# Altium schematic symbol library Microchip PIC12.SchLib: 457 symbols (part 9 of 15)
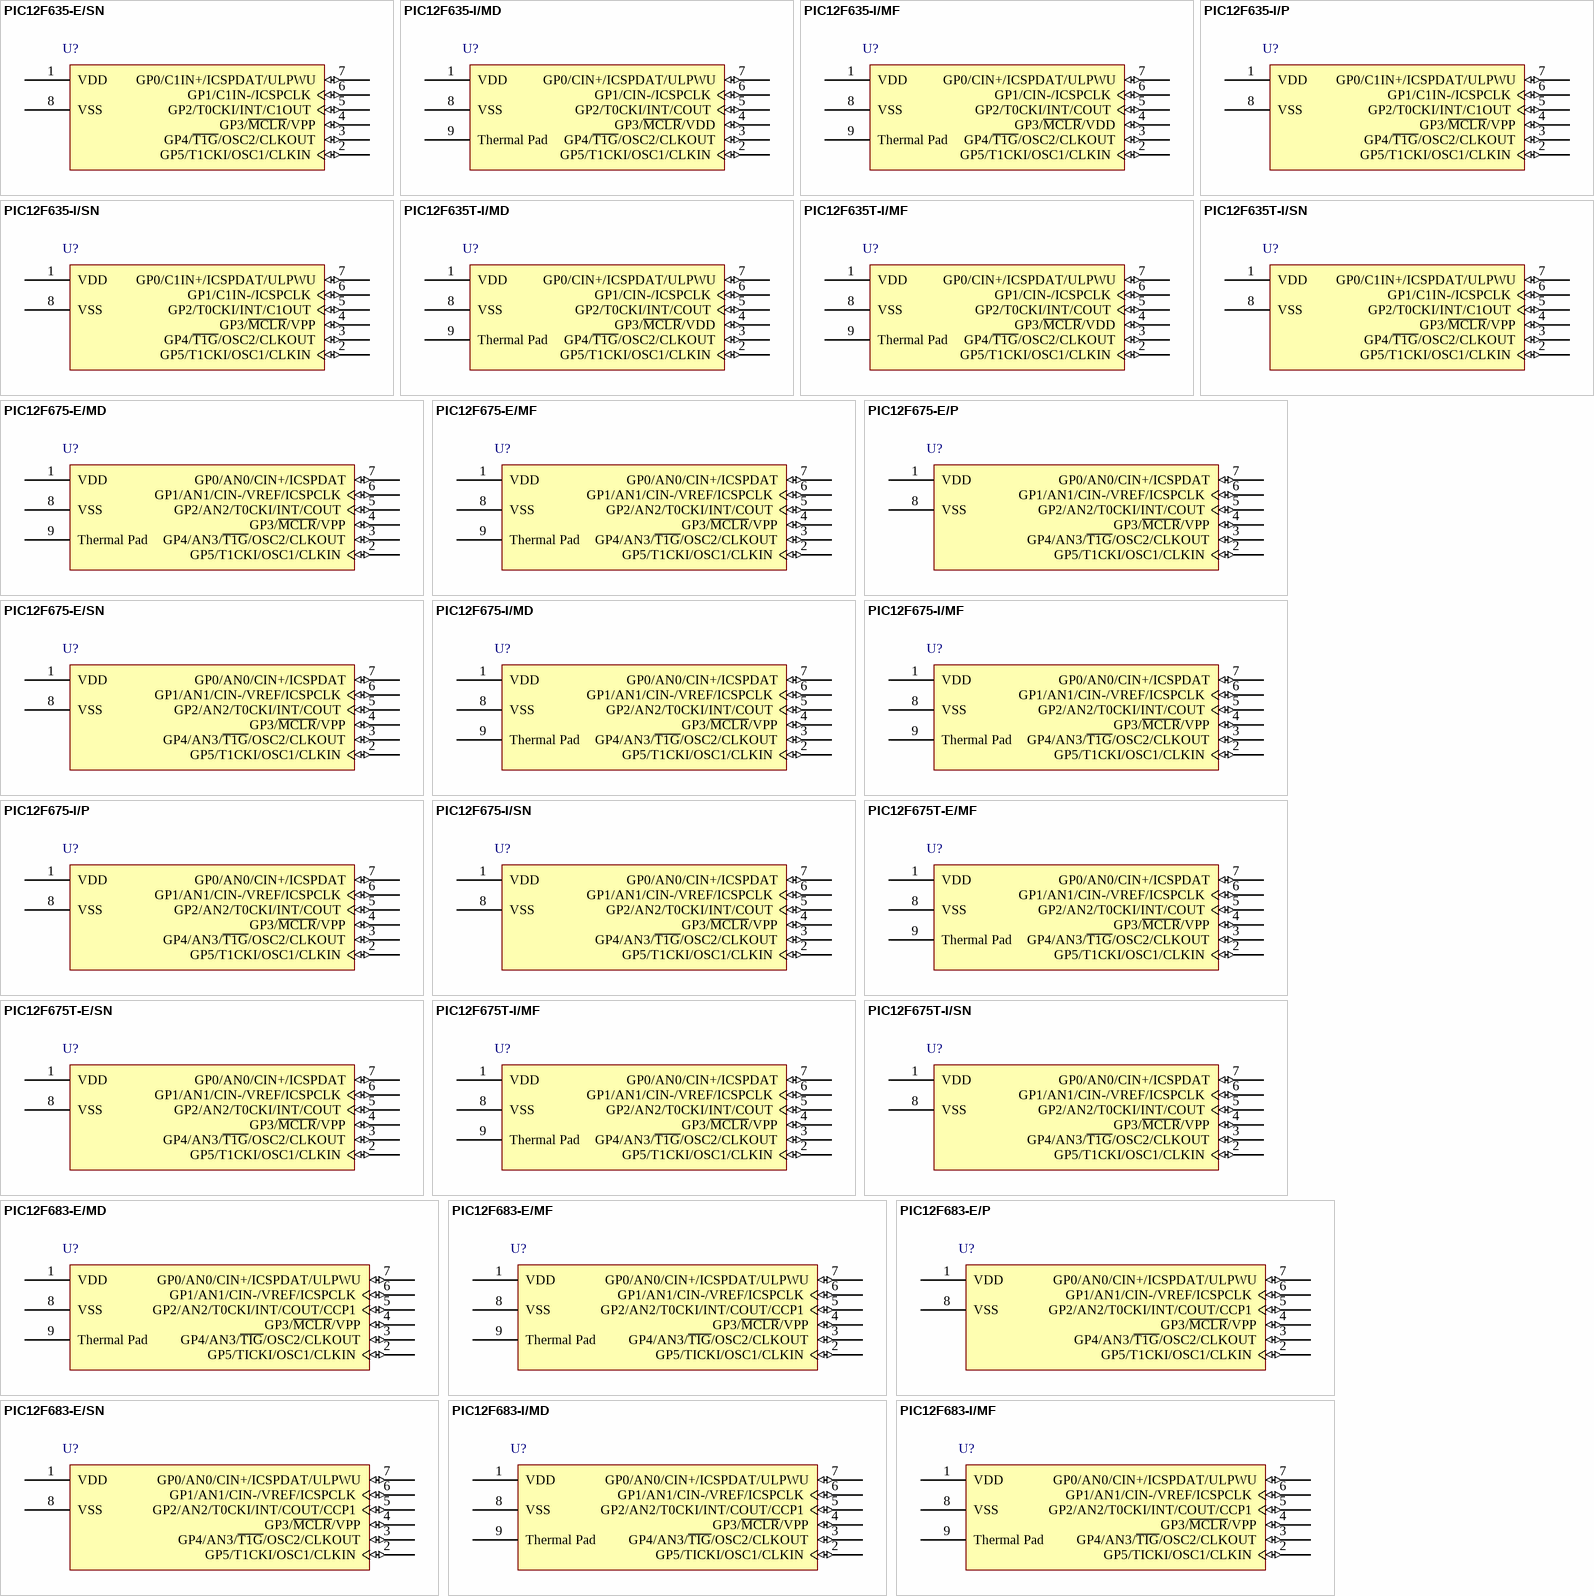
[diagram p23: symbols PIC12F635-E/SN to PIC12F683-I/MF]

## PIC12F675T-I/SN
designator U?
FLASH-Based 8-Bit CMOS Microcontroller, 10-Bit A/D, 8-Pin SOIC 150mil, Industrial Temperature, Tape and Reel; Manufacturer: Microchip; PartNumber: PIC12F675T-I/SN; DatasheetVersion: revF, Sep-2009; PackageVersion: revBB, Aug-2009; PackageReference: SOIC-SN8; PackageDescription: 8-Lead Plastic Small Outline (SN) - Narrow, 3.90mm Body [SOIC]; Code_JEDEC: MS-012; Code_IPC: SOIC127P600-8; ComponentLink1Description: Manufacturer URL; ComponentLink1URL: http://www.microchip.com/; ComponentLink2Description: Datasheet; ComponentLink2URL: http://ww1.microchip.com/downloads/en/DeviceDoc/41190F.pdf; ComponentLink3Description: Package Specification; ComponentLink3URL: http://www.microchip.com/stellent/groups/techpub_sg/documents/packagingspec/en012702.pdf
footprint SOIC-SN8_N (SOIC, 8-Leads, Body 4.9x3.8mm, Pitch 1.27mm, IPC Medium Density)
footprint SOIC-SN8_L (SOIC, 8-Leads, Body 4.9x3.8mm, Pitch 1.27mm, IPC High Density)
footprint SOIC-SN8_M (SOIC, 8-Leads, Body 4.9x3.8mm, Pitch 1.27mm, IPC Low Density)
pins: 1 VDD (power), 2 GP5/T1CKI/OSC1/CLKIN (io), 3 GP4/AN3/~{T1G}/OSC2/CLKOUT (io), 4 GP3/~{MCLR}/VPP (io), 5 GP2/AN2/T0CKI/INT/COUT (io), 6 GP1/AN1/CIN-/VREF/ICSPCLK (io), 7 GP0/AN0/CIN+/ICSPDAT (io), 8 VSS (power)

## PIC12F683-E/MD
designator U?
Flash-Based 8-Bit CMOS Microcontroller with nanoWatt Technology, 2K (x14-Bit words) Program Memory, 384 Bytes Data Memory, 8-Pin DFN, Extended Temperature; Manufacturer: Microchip; PartNumber: PIC12F683-E/MD; DatasheetVersion: revD, Feb-2007; PackageVersion: revBB, Aug-2009; PackageReference: DFN-MD8; PackageDescription: 8-Lead Plastic Dual Flat, No Lead Package (MD) - 4x4x0.9mm Body [DFN]; ComponentLink1Description: Manufacturer URL; ComponentLink1URL: http://www.microchip.com/; ComponentLink2Description: Datasheet; ComponentLink2URL: http://ww1.microchip.com/downloads/en/DeviceDoc/41211D_.pdf; ComponentLink3Description: Package Specification; ComponentLink3URL: http://www.microchip.com/stellent/groups/techpub_sg/documents/packagingspec/en012702.pdf
footprint DFN-MD8 (SON, 8-Leads, Body 4x4mm, Pitch 0.8mm, Microchip Recommended)
pins: 1 VDD (power), 2 GP5/TICKI/OSC1/CLKIN (io), 3 GP4/AN3/~{TIG}/OSC2/CLKOUT (io), 4 GP3/~{MCLR}/VPP (io), 5 GP2/AN2/T0CKI/INT/COUT/CCP1 (io), 6 GP1/AN1/CIN-/VREF/ICSPCLK (io), 7 GP0/AN0/CIN+/ICSPDAT/ULPWU (io), 8 VSS (power), 9 Thermal Pad

## PIC12F683-E/MF
designator U?
Flash-Based 8-Bit CMOS Microcontroller with nanoWatt Technology, 2K (x14-Bit words) Program Memory, 384 Bytes Data Memory, 8-Pin DFN, Extended Temperature; Manufacturer: Microchip; PartNumber: PIC12F683-E/MF; DatasheetVersion: revD, Feb-2007; PackageVersion: revBB, Aug-2009; PackageReference: DFNS-MF8; PackageDescription: 8-Lead Plastic Dual Flat, No Lead Package (MF) - 6x5 mm Body [DFN-S]; ComponentLink1Description: Manufacturer URL; ComponentLink1URL: http://www.microchip.com/; ComponentLink2Description: Datasheet; ComponentLink2URL: http://ww1.microchip.com/downloads/en/DeviceDoc/41211D_.pdf; ComponentLink3Description: Package Specification; ComponentLink3URL: http://www.microchip.com/stellent/groups/techpub_sg/documents/packagingspec/en012702.pdf
footprint DFNS-MF8 (SON, 8-Leads, Body 5x6mm, Pitch 1.27mm, Microchip Recommended)
pins: 1 VDD (power), 2 GP5/TICKI/OSC1/CLKIN (io), 3 GP4/AN3/~{TIG}/OSC2/CLKOUT (io), 4 GP3/~{MCLR}/VPP (io), 5 GP2/AN2/T0CKI/INT/COUT/CCP1 (io), 6 GP1/AN1/CIN-/VREF/ICSPCLK (io), 7 GP0/AN0/CIN+/ICSPDAT/ULPWU (io), 8 VSS (power), 9 Thermal Pad

## PIC12F683-E/P
designator U?
Flash-Based 8-Bit CMOS Microcontroller with nanoWatt Technology, 2K (x14-Bit words) Program Memory, 384 Bytes Data Memory, 8-Pin PDIP, Extended Temperature; Manufacturer: Microchip; PartNumber: PIC12F683-E/P; DatasheetVersion: revD, Feb-2007; PackageVersion: revBB, Aug-2009; PackageReference: PDIP300-P8; PackageDescription: 8-Lead Plastic Dual In-Line (P) - 300 mil Body [PDIP]; Code_JEDEC: MS-001; ComponentLink1Description: Manufacturer URL; ComponentLink1URL: http://www.microchip.com/; ComponentLink2Description: Datasheet; ComponentLink2URL: http://ww1.microchip.com/downloads/en/DeviceDoc/41211D_.pdf; ComponentLink3Description: Package Specification; ComponentLink3URL: http://www.microchip.com/stellent/groups/techpub_sg/documents/packagingspec/en012702.pdf
footprint PDIP300-P8 (DIP, 8-Leads, Row Spacing 7.62mm, Pitch 2.54mm, Body 9.5x6.6mm)
pins: 1 VDD (power), 2 GP5/T1CKI/OSC1/CLKIN (io), 3 GP4/AN3/~{T1G}/OSC2/CLKOUT (io), 4 GP3/~{MCLR}/VPP (io), 5 GP2/AN2/T0CKI/INT/COUT/CCP1 (io), 6 GP1/AN1/CIN-/VREF/ICSPCLK (io), 7 GP0/AN0/CIN+/ICSPDAT/ULPWU (io), 8 VSS (power)

## PIC12F683-E/SN
designator U?
Flash-Based 8-Bit CMOS Microcontroller with nanoWatt Technology, 2K (x14-Bit words) Program Memory, 384 Bytes Data Memory, 8-Pin SOIC, Extended Temperature; Manufacturer: Microchip; PartNumber: PIC12F683-E/SN; DatasheetVersion: revD, Feb-2007; PackageVersion: revBB, Aug-2009; PackageReference: SOIC-SN8; PackageDescription: 8-Lead Plastic Small Outline (SN) - Narrow, 3.90mm Body [SOIC]; Code_JEDEC: MS-012; Code_IPC: SOIC127P600-8; ComponentLink1Description: Manufacturer URL; ComponentLink1URL: http://www.microchip.com/; ComponentLink2Description: Datasheet; ComponentLink2URL: http://ww1.microchip.com/downloads/en/DeviceDoc/41211D_.pdf; ComponentLink3Description: Package Specification; ComponentLink3URL: http://www.microchip.com/stellent/groups/techpub_sg/documents/packagingspec/en012702.pdf
footprint SOIC-SN8_N (SOIC, 8-Leads, Body 4.9x3.8mm, Pitch 1.27mm, IPC Medium Density)
footprint SOIC-SN8_L (SOIC, 8-Leads, Body 4.9x3.8mm, Pitch 1.27mm, IPC High Density)
footprint SOIC-SN8_M (SOIC, 8-Leads, Body 4.9x3.8mm, Pitch 1.27mm, IPC Low Density)
pins: 1 VDD (power), 2 GP5/T1CKI/OSC1/CLKIN (io), 3 GP4/AN3/~{T1G}/OSC2/CLKOUT (io), 4 GP3/~{MCLR}/VPP (io), 5 GP2/AN2/T0CKI/INT/COUT/CCP1 (io), 6 GP1/AN1/CIN-/VREF/ICSPCLK (io), 7 GP0/AN0/CIN+/ICSPDAT/ULPWU (io), 8 VSS (power)

## PIC12F683-I/MD
designator U?
Flash-Based 8-Bit CMOS Microcontroller with nanoWatt Technology, 2K (x14-Bit words) Program Memory, 384 Bytes Data Memory, 8-Pin DFN, Industrial Temperature; Manufacturer: Microchip; PartNumber: PIC12F683-I/MD; DatasheetVersion: revD, Feb-2007; PackageVersion: revBB, Aug-2009; PackageReference: DFN-MD8; PackageDescription: 8-Lead Plastic Dual Flat, No Lead Package (MD) - 4x4x0.9mm Body [DFN]; ComponentLink1Description: Manufacturer URL; ComponentLink1URL: http://www.microchip.com/; ComponentLink2Description: Datasheet; ComponentLink2URL: http://ww1.microchip.com/downloads/en/DeviceDoc/41211D_.pdf; ComponentLink3Description: Package Specification; ComponentLink3URL: http://www.microchip.com/stellent/groups/techpub_sg/documents/packagingspec/en012702.pdf
footprint DFN-MD8 (SON, 8-Leads, Body 4x4mm, Pitch 0.8mm, Microchip Recommended)
pins: 1 VDD (power), 2 GP5/TICKI/OSC1/CLKIN (io), 3 GP4/AN3/~{TIG}/OSC2/CLKOUT (io), 4 GP3/~{MCLR}/VPP (io), 5 GP2/AN2/T0CKI/INT/COUT/CCP1 (io), 6 GP1/AN1/CIN-/VREF/ICSPCLK (io), 7 GP0/AN0/CIN+/ICSPDAT/ULPWU (io), 8 VSS (power), 9 Thermal Pad

## PIC12F683-I/MF
designator U?
Flash-Based 8-Bit CMOS Microcontroller with nanoWatt Technology, 2K (x14-Bit words) Program Memory, 384 Bytes Data Memory, 8-Pin DFN, Industrial Temperature; Manufacturer: Microchip; PartNumber: PIC12F683-I/MF; DatasheetVersion: revD, Feb-2007; PackageVersion: revBB, Aug-2009; PackageReference: DFNS-MF8; PackageDescription: 8-Lead Plastic Dual Flat, No Lead Package (MF) - 6x5 mm Body [DFN-S]; ComponentLink1Description: Manufacturer URL; ComponentLink1URL: http://www.microchip.com/; ComponentLink2Description: Datasheet; ComponentLink2URL: http://ww1.microchip.com/downloads/en/DeviceDoc/41211D_.pdf; ComponentLink3Description: Package Specification; ComponentLink3URL: http://www.microchip.com/stellent/groups/techpub_sg/documents/packagingspec/en012702.pdf
footprint DFNS-MF8 (SON, 8-Leads, Body 5x6mm, Pitch 1.27mm, Microchip Recommended)
pins: 1 VDD (power), 2 GP5/TICKI/OSC1/CLKIN (io), 3 GP4/AN3/~{TIG}/OSC2/CLKOUT (io), 4 GP3/~{MCLR}/VPP (io), 5 GP2/AN2/T0CKI/INT/COUT/CCP1 (io), 6 GP1/AN1/CIN-/VREF/ICSPCLK (io), 7 GP0/AN0/CIN+/ICSPDAT/ULPWU (io), 8 VSS (power), 9 Thermal Pad

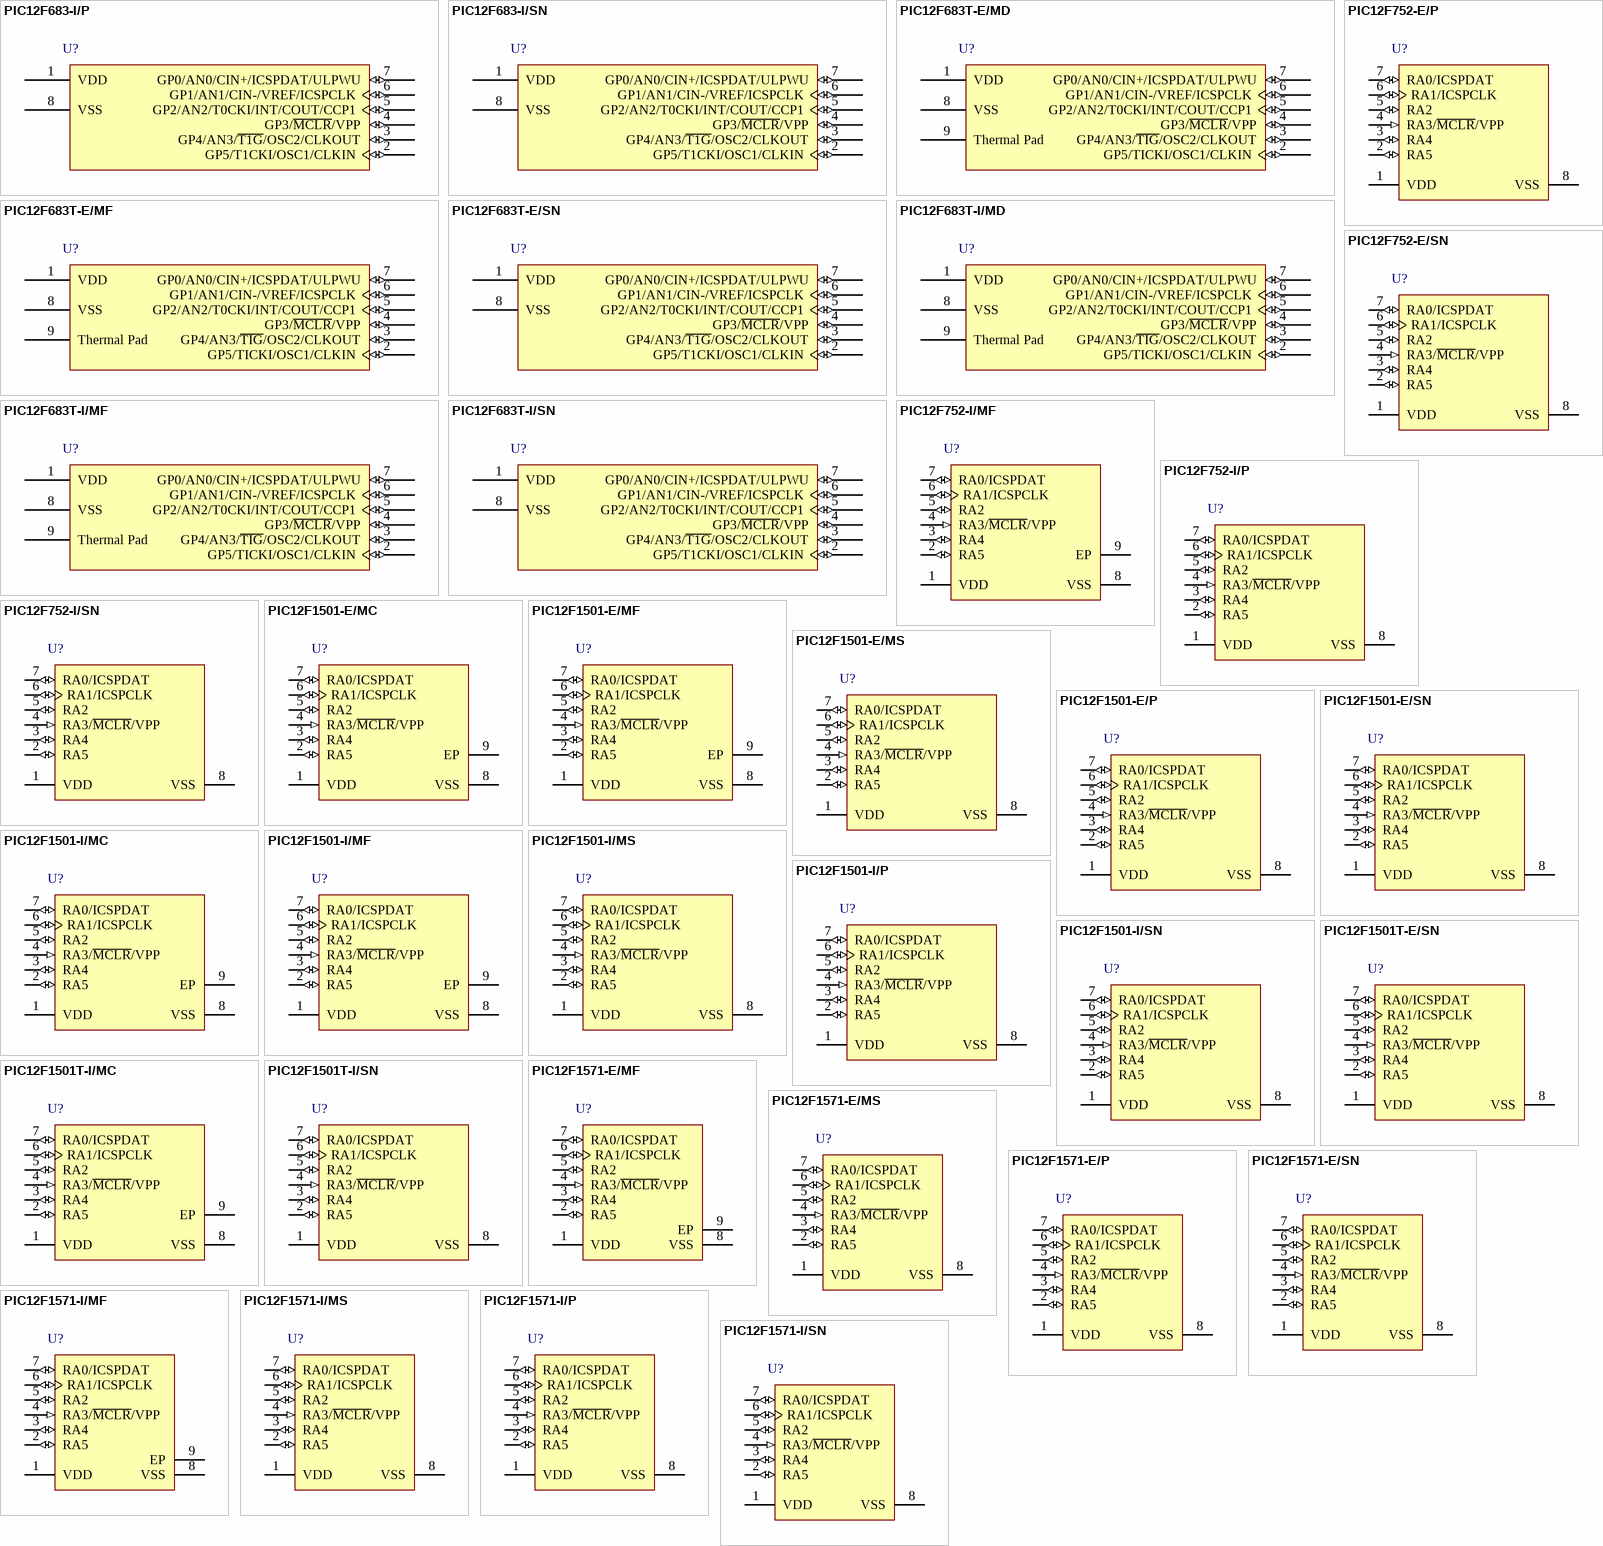
[diagram p9: symbols PIC12F683-I/P to PIC12F1571-I/SN]

## PIC12F683-I/P
designator U?
Flash-Based 8-Bit CMOS Microcontroller with nanoWatt Technology, 2K (x14-Bit words) Program Memory, 384 Bytes Data Memory, 8-Pin PDIP, Industrial Temperature; Manufacturer: Microchip; PartNumber: PIC12F683-I/P; DatasheetVersion: revD, Feb-2007; PackageVersion: revBB, Aug-2009; PackageReference: PDIP300-P8; PackageDescription: 8-Lead Plastic Dual In-Line (P) - 300 mil Body [PDIP]; Code_JEDEC: MS-001; ComponentLink1Description: Manufacturer URL; ComponentLink1URL: http://www.microchip.com/; ComponentLink2Description: Datasheet; ComponentLink2URL: http://ww1.microchip.com/downloads/en/DeviceDoc/41211D_.pdf; ComponentLink3Description: Package Specification; ComponentLink3URL: http://www.microchip.com/stellent/groups/techpub_sg/documents/packagingspec/en012702.pdf
footprint PDIP300-P8 (DIP, 8-Leads, Row Spacing 7.62mm, Pitch 2.54mm, Body 9.5x6.6mm)
pins: 1 VDD (power), 2 GP5/T1CKI/OSC1/CLKIN (io), 3 GP4/AN3/~{T1G}/OSC2/CLKOUT (io), 4 GP3/~{MCLR}/VPP (io), 5 GP2/AN2/T0CKI/INT/COUT/CCP1 (io), 6 GP1/AN1/CIN-/VREF/ICSPCLK (io), 7 GP0/AN0/CIN+/ICSPDAT/ULPWU (io), 8 VSS (power)

## PIC12F683-I/SN
designator U?
Flash-Based 8-Bit CMOS Microcontroller with nanoWatt Technology, 2K (x14-Bit words) Program Memory, 384 Bytes Data Memory, 8-Pin SOIC, Industrial Temperature; Manufacturer: Microchip; PartNumber: PIC12F683-I/SN; DatasheetVersion: revD, Feb-2007; PackageVersion: revBB, Aug-2009; PackageReference: SOIC-SN8; PackageDescription: 8-Lead Plastic Small Outline (SN) - Narrow, 3.90mm Body [SOIC]; Code_JEDEC: MS-012; Code_IPC: SOIC127P600-8; ComponentLink1Description: Manufacturer URL; ComponentLink1URL: http://www.microchip.com/; ComponentLink2Description: Datasheet; ComponentLink2URL: http://ww1.microchip.com/downloads/en/DeviceDoc/41211D_.pdf; ComponentLink3Description: Package Specification; ComponentLink3URL: http://www.microchip.com/stellent/groups/techpub_sg/documents/packagingspec/en012702.pdf
footprint SOIC-SN8_N (SOIC, 8-Leads, Body 4.9x3.8mm, Pitch 1.27mm, IPC Medium Density)
footprint SOIC-SN8_L (SOIC, 8-Leads, Body 4.9x3.8mm, Pitch 1.27mm, IPC High Density)
footprint SOIC-SN8_M (SOIC, 8-Leads, Body 4.9x3.8mm, Pitch 1.27mm, IPC Low Density)
pins: 1 VDD (power), 2 GP5/T1CKI/OSC1/CLKIN (io), 3 GP4/AN3/~{T1G}/OSC2/CLKOUT (io), 4 GP3/~{MCLR}/VPP (io), 5 GP2/AN2/T0CKI/INT/COUT/CCP1 (io), 6 GP1/AN1/CIN-/VREF/ICSPCLK (io), 7 GP0/AN0/CIN+/ICSPDAT/ULPWU (io), 8 VSS (power)

## PIC12F683T-E/MD
designator U?
Flash-Based 8-Bit CMOS Microcontroller with nanoWatt Technology, 2K (x14-Bit words) Program Memory, 384 Bytes Data Memory, 8-Pin DFN, Extended Temperature, Tape and Reel; Manufacturer: Microchip; PartNumber: PIC12F683T-E/MD; DatasheetVersion: revD, Feb-2007; PackageVersion: revBB, Aug-2009; PackageReference: DFN-MD8; PackageDescription: 8-Lead Plastic Dual Flat, No Lead Package (MD) - 4x4x0.9mm Body [DFN]; ComponentLink1Description: Manufacturer URL; ComponentLink1URL: http://www.microchip.com/; ComponentLink2Description: Datasheet; ComponentLink2URL: http://ww1.microchip.com/downloads/en/DeviceDoc/41211D_.pdf; ComponentLink3Description: Package Specification; ComponentLink3URL: http://www.microchip.com/stellent/groups/techpub_sg/documents/packagingspec/en012702.pdf
footprint DFN-MD8 (SON, 8-Leads, Body 4x4mm, Pitch 0.8mm, Microchip Recommended)
pins: 1 VDD (power), 2 GP5/TICKI/OSC1/CLKIN (io), 3 GP4/AN3/~{TIG}/OSC2/CLKOUT (io), 4 GP3/~{MCLR}/VPP (io), 5 GP2/AN2/T0CKI/INT/COUT/CCP1 (io), 6 GP1/AN1/CIN-/VREF/ICSPCLK (io), 7 GP0/AN0/CIN+/ICSPDAT/ULPWU (io), 8 VSS (power), 9 Thermal Pad

## PIC12F683T-E/MF
designator U?
Flash-Based 8-Bit CMOS Microcontroller with nanoWatt Technology, 2K (x14-Bit words) Program Memory, 384 Bytes Data Memory, 8-Pin DFN, Extended Temperature, Tape and Reel; Manufacturer: Microchip; PartNumber: PIC12F683T-E/MF; DatasheetVersion: revD, Feb-2007; PackageVersion: revBB, Aug-2009; PackageReference: DFNS-MF8; PackageDescription: 8-Lead Plastic Dual Flat, No Lead Package (MF) - 6x5 mm Body [DFN-S]; ComponentLink1Description: Manufacturer URL; ComponentLink1URL: http://www.microchip.com/; ComponentLink2Description: Datasheet; ComponentLink2URL: http://ww1.microchip.com/downloads/en/DeviceDoc/41211D_.pdf; ComponentLink3Description: Package Specification; ComponentLink3URL: http://www.microchip.com/stellent/groups/techpub_sg/documents/packagingspec/en012702.pdf
footprint DFNS-MF8 (SON, 8-Leads, Body 5x6mm, Pitch 1.27mm, Microchip Recommended)
pins: 1 VDD (power), 2 GP5/TICKI/OSC1/CLKIN (io), 3 GP4/AN3/~{TIG}/OSC2/CLKOUT (io), 4 GP3/~{MCLR}/VPP (io), 5 GP2/AN2/T0CKI/INT/COUT/CCP1 (io), 6 GP1/AN1/CIN-/VREF/ICSPCLK (io), 7 GP0/AN0/CIN+/ICSPDAT/ULPWU (io), 8 VSS (power), 9 Thermal Pad

## PIC12F683T-E/SN
designator U?
Flash-Based 8-Bit CMOS Microcontroller with nanoWatt Technology, 2K (x14-Bit words) Program Memory, 384 Bytes Data Memory, 8-Pin SOIC, Extended Temperature, Tape and Reel; Manufacturer: Microchip; PartNumber: PIC12F683T-E/SN; DatasheetVersion: revD, Feb-2007; PackageVersion: revBB, Aug-2009; PackageReference: SOIC-SN8; PackageDescription: 8-Lead Plastic Small Outline (SN) - Narrow, 3.90mm Body [SOIC]; Code_JEDEC: MS-012; Code_IPC: SOIC127P600-8; ComponentLink1Description: Manufacturer URL; ComponentLink1URL: http://www.microchip.com/; ComponentLink2Description: Datasheet; ComponentLink2URL: http://ww1.microchip.com/downloads/en/DeviceDoc/41211D_.pdf; ComponentLink3Description: Package Specification; ComponentLink3URL: http://www.microchip.com/stellent/groups/techpub_sg/documents/packagingspec/en012702.pdf
footprint SOIC-SN8_N (SOIC, 8-Leads, Body 4.9x3.8mm, Pitch 1.27mm, IPC Medium Density)
footprint SOIC-SN8_L (SOIC, 8-Leads, Body 4.9x3.8mm, Pitch 1.27mm, IPC High Density)
footprint SOIC-SN8_M (SOIC, 8-Leads, Body 4.9x3.8mm, Pitch 1.27mm, IPC Low Density)
pins: 1 VDD (power), 2 GP5/T1CKI/OSC1/CLKIN (io), 3 GP4/AN3/~{T1G}/OSC2/CLKOUT (io), 4 GP3/~{MCLR}/VPP (io), 5 GP2/AN2/T0CKI/INT/COUT/CCP1 (io), 6 GP1/AN1/CIN-/VREF/ICSPCLK (io), 7 GP0/AN0/CIN+/ICSPDAT/ULPWU (io), 8 VSS (power)

## PIC12F683T-I/MD
designator U?
Flash-Based 8-Bit CMOS Microcontroller with nanoWatt Technology, 2K (x14-Bit words) Program Memory, 384 Bytes Data Memory, 8-Pin DFN, Industrial Temperature, Tape and Reel; Manufacturer: Microchip; PartNumber: PIC12F683T-I/MD; DatasheetVersion: revD, Feb-2007; PackageVersion: revBB, Aug-2009; PackageReference: DFN-MD8; PackageDescription: 8-Lead Plastic Dual Flat, No Lead Package (MD) - 4x4x0.9mm Body [DFN]; ComponentLink1Description: Manufacturer URL; ComponentLink1URL: http://www.microchip.com/; ComponentLink2Description: Datasheet; ComponentLink2URL: http://ww1.microchip.com/downloads/en/DeviceDoc/41211D_.pdf; ComponentLink3Description: Package Specification; ComponentLink3URL: http://www.microchip.com/stellent/groups/techpub_sg/documents/packagingspec/en012702.pdf
footprint DFN-MD8 (SON, 8-Leads, Body 4x4mm, Pitch 0.8mm, Microchip Recommended)
pins: 1 VDD (power), 2 GP5/TICKI/OSC1/CLKIN (io), 3 GP4/AN3/~{TIG}/OSC2/CLKOUT (io), 4 GP3/~{MCLR}/VPP (io), 5 GP2/AN2/T0CKI/INT/COUT/CCP1 (io), 6 GP1/AN1/CIN-/VREF/ICSPCLK (io), 7 GP0/AN0/CIN+/ICSPDAT/ULPWU (io), 8 VSS (power), 9 Thermal Pad

## PIC12F683T-I/MF
designator U?
Flash-Based 8-Bit CMOS Microcontroller with nanoWatt Technology, 2K (x14-Bit words) Program Memory, 384 Bytes Data Memory, 8-Pin DFN, Industrial Temperature, Tape and Reel; Manufacturer: Microchip; PartNumber: PIC12F683T-I/MF; DatasheetVersion: revD, Feb-2007; PackageVersion: revBB, Aug-2009; PackageReference: DFNS-MF8; PackageDescription: 8-Lead Plastic Dual Flat, No Lead Package (MF) - 6x5 mm Body [DFN-S]; ComponentLink1Description: Manufacturer URL; ComponentLink1URL: http://www.microchip.com/; ComponentLink2Description: Datasheet; ComponentLink2URL: http://ww1.microchip.com/downloads/en/DeviceDoc/41211D_.pdf; ComponentLink3Description: Package Specification; ComponentLink3URL: http://www.microchip.com/stellent/groups/techpub_sg/documents/packagingspec/en012702.pdf
footprint DFNS-MF8 (SON, 8-Leads, Body 5x6mm, Pitch 1.27mm, Microchip Recommended)
pins: 1 VDD (power), 2 GP5/TICKI/OSC1/CLKIN (io), 3 GP4/AN3/~{TIG}/OSC2/CLKOUT (io), 4 GP3/~{MCLR}/VPP (io), 5 GP2/AN2/T0CKI/INT/COUT/CCP1 (io), 6 GP1/AN1/CIN-/VREF/ICSPCLK (io), 7 GP0/AN0/CIN+/ICSPDAT/ULPWU (io), 8 VSS (power), 9 Thermal Pad

## PIC12F683T-I/SN
designator U?
Flash-Based 8-Bit CMOS Microcontroller with nanoWatt Technology, 2K (x14-Bit words) Program Memory, 384 Bytes Data Memory, 8-Pin SOIC, Industrial Temperature, Tape and Reel; Manufacturer: Microchip; PartNumber: PIC12F683T-I/SN; DatasheetVersion: revD, Feb-2007; PackageVersion: revBB, Aug-2009; PackageReference: SOIC-SN8; PackageDescription: 8-Lead Plastic Small Outline (SN) - Narrow, 3.90mm Body [SOIC]; Code_JEDEC: MS-012; Code_IPC: SOIC127P600-8; ComponentLink1Description: Manufacturer URL; ComponentLink1URL: http://www.microchip.com/; ComponentLink2Description: Datasheet; ComponentLink2URL: http://ww1.microchip.com/downloads/en/DeviceDoc/41211D_.pdf; ComponentLink3Description: Package Specification; ComponentLink3URL: http://www.microchip.com/stellent/groups/techpub_sg/documents/packagingspec/en012702.pdf
footprint SOIC-SN8_N (SOIC, 8-Leads, Body 4.9x3.8mm, Pitch 1.27mm, IPC Medium Density)
footprint SOIC-SN8_L (SOIC, 8-Leads, Body 4.9x3.8mm, Pitch 1.27mm, IPC High Density)
footprint SOIC-SN8_M (SOIC, 8-Leads, Body 4.9x3.8mm, Pitch 1.27mm, IPC Low Density)
pins: 1 VDD (power), 2 GP5/T1CKI/OSC1/CLKIN (io), 3 GP4/AN3/~{T1G}/OSC2/CLKOUT (io), 4 GP3/~{MCLR}/VPP (io), 5 GP2/AN2/T0CKI/INT/COUT/CCP1 (io), 6 GP1/AN1/CIN-/VREF/ICSPCLK (io), 7 GP0/AN0/CIN+/ICSPDAT/ULPWU (io), 8 VSS (power)

## PIC12F752-E/P
designator U?
Flash-Based 8-Bit CMOS Microcontroller, 20 MHz, 5 I/O, -40 to 125 degC, 8-pin PDIP (P8), Tube; Manufacturer: Microchip; PartNumber: PIC12F752-E/P; # of A/D Channels: 4; I/O Pins: 5; Internal Oscillator: 8 MHz, 31 kHz; Max. CPU Speed MHz: 20; Memory Type: Flash; Operation Voltage Range: 2V - 5.5V; Program Memory KBytes: 1.75; Program Memory KWords: 1; RAM: 64; Timers: 3 - 8-bit, 1 - 16-bit; DatasheetVersion: Rev. B; PackageVersion: C04-018B, 12/2012; PackageReference: PDIP-P8; PackageDescription: 8-Lead Plastic Dual In-Line, Row Spacing 7.62 mm, 9.5 x 6.6 mm Body, 2.54 mm Pitch; Supplier 1: Digi-Key; Supplier Part Number 1: PIC12F752-E/P-ND; Supplier 2: Mouser; Supplier Part Number 2: 579-PIC12F752-E/P; Packing: TUBE; RoHS: TRUE; Mounting Technology: Through Hole; ComponentLink1Description: Datasheet; ComponentLink1URL: http://ww1.microchip.com/downloads/en/DeviceDoc/41576B.pdf; ComponentLink2Description: Package Specification; ComponentLink2URL: http://www.microchip.com/stellent/groups/techpub_sg/documents/packagingspec/en012702.pdf; ComponentLink3Description: URL Link1; ComponentLink3URL: Product URL:http://www.microchip.com/datasheet/PIC12F752
footprint MCHP-PDIP-P8 (PDIP, 8-Leads, Body 9.5x6.604mm, Pitch 2.54mm)
pins: 1 VDD (power) "Positive supply.", 2 RA5 (io), 3 RA4 (io), 4 RA3/~{MCLR}/VPP (in), 5 RA2 (io), 6 RA1/ICSPCLK (io), 7 RA0/ICSPDAT (io), 8 VSS (power) "Ground reference."

## PIC12F752-E/SN
designator U?
Flash-Based 8-Bit CMOS Microcontroller, 20 MHz, 5 I/O, -40 to 125 degC, 8-pin SOIC (SN8), Tube; Manufacturer: Microchip; PartNumber: PIC12F752-E/SN; # of A/D Channels: 4; I/O Pins: 5; Internal Oscillator: 8 MHz, 31 kHz; Max. CPU Speed MHz: 20; Memory Type: Flash; Operation Voltage Range: 2V - 5.5V; Program Memory KBytes: 1.75; Program Memory KWords: 1; RAM: 64; Timers: 3 - 8-bit, 1 - 16-bit; DatasheetVersion: Rev. B; PackageVersion: C04-057C, 12/2012; PackageReference: SOIC-SN8; PackageDescription: 8-Lead Plastic Small Outline, 4.9 x 3.9 mm Body, 1.27 mm Pitch; Supplier 1: Digi-Key; Supplier Part Number 1: PIC12F752-E/SN-ND; Supplier 2: Mouser; Supplier Part Number 2: 579-PIC12F752-E/SN; Packing: TUBE; RoHS: TRUE; Mounting Technology: Surface Mount; ComponentLink1Description: Datasheet; ComponentLink1URL: http://ww1.microchip.com/downloads/en/DeviceDoc/41576B.pdf; ComponentLink2Description: Package Specification; ComponentLink2URL: http://www.microchip.com/stellent/groups/techpub_sg/documents/packagingspec/en012702.pdf; ComponentLink3Description: URL Link1; ComponentLink3URL: Product URL:http://www.microchip.com/datasheet/PIC12F752
footprint MCHP-SOIC-SN8_N (SOIC, 8-Leads, Body 4.9x3.9mm, Pitch 1.27mm, IPC Medium Density)
footprint MCHP-SOIC-SN8_L (SOIC, 8-Leads, Body 4.9x3.9mm, Pitch 1.27mm, IPC High Density)
footprint MCHP-SOIC-SN8_M (SOIC, 8-Leads, Body 4.9x3.9mm, Pitch 1.27mm, IPC Low Density)
pins: 1 VDD (power) "Positive supply.", 2 RA5 (io), 3 RA4 (io), 4 RA3/~{MCLR}/VPP (in), 5 RA2 (io), 6 RA1/ICSPCLK (io), 7 RA0/ICSPDAT (io), 8 VSS (power) "Ground reference."

## PIC12F752-I/MF
designator U?
Flash-Based 8-Bit CMOS Microcontroller, 20 MHz, 5 I/O, -40 to 85 degC, 8-pin DFN (MF8), Tube; Manufacturer: Microchip; PartNumber: PIC12F752-I/MF; # of A/D Channels: 4; I/O Pins: 5; Internal Oscillator: 8 MHz, 31 kHz; Max. CPU Speed MHz: 20; Memory Type: Flash; Operation Voltage Range: 2V - 5.5V; Program Memory KBytes: 1.75; Program Memory KWords: 1; RAM: 64; Timers: 3 - 8-bit, 1 - 16-bit; DatasheetVersion: Rev. B; PackageVersion: C04-062C, 12/2012; PackageReference: DFN-MF8; PackageDescription: 8-Lead Plastic Dual Flat, No Lead Package, 3 x 3 mm Body, 0.65 mm Pitch; Supplier 1: Digi-Key; Supplier Part Number 1: PIC12F752-I/MF-ND; Supplier 2: Mouser; Supplier Part Number 2: 579-PIC12F752-I/MF; Packing: TUBE; RoHS: TRUE; Mounting Technology: Surface Mount; ComponentLink1Description: Datasheet; ComponentLink1URL: http://ww1.microchip.com/downloads/en/DeviceDoc/41576B.pdf; ComponentLink2Description: Package Specification; ComponentLink2URL: http://www.microchip.com/stellent/groups/techpub_sg/documents/packagingspec/en012702.pdf; ComponentLink3Description: URL Link1; ComponentLink3URL: Product URL:http://www.microchip.com/datasheet/PIC12F752
footprint MCHP-DFN-MF8_V (SON, 8-Leads, Body 3x3mm, Pitch 0.65mm, Thermal Pad 2.4x1.55mm)
pins: 1 VDD (power) "Positive supply.", 2 RA5 (io), 3 RA4 (io), 4 RA3/~{MCLR}/VPP (in), 5 RA2 (io), 6 RA1/ICSPCLK (io), 7 RA0/ICSPDAT (io), 8 VSS (power) "Ground reference.", 9 EP

## PIC12F752-I/P
designator U?
Flash-Based 8-Bit CMOS Microcontroller, 20 MHz, 5 I/O, -40 to 85 degC, 8-pin PDIP (P8), Tube; Manufacturer: Microchip; PartNumber: PIC12F752-I/P; # of A/D Channels: 4; I/O Pins: 5; Internal Oscillator: 8 MHz, 31 kHz; Max. CPU Speed MHz: 20; Memory Type: Flash; Operation Voltage Range: 2V - 5.5V; Program Memory KBytes: 1.75; Program Memory KWords: 1; RAM: 64; Timers: 3 - 8-bit, 1 - 16-bit; DatasheetVersion: Rev. B; PackageVersion: C04-018B, 12/2012; PackageReference: PDIP-P8; PackageDescription: 8-Lead Plastic Dual In-Line, Row Spacing 7.62 mm, 9.5 x 6.6 mm Body, 2.54 mm Pitch; Supplier 1: Digi-Key; Supplier Part Number 1: PIC12F752-I/P-ND; Supplier 2: Farnell; Supplier Part Number 2: 2084984; Supplier 3: Newark; Supplier Part Number 3: 30T3368; Supplier 4: Mouser; Supplier Part Number 4: 579-PIC12F752-I/P; Packing: TUBE; RoHS: TRUE; Mounting Technology: Through Hole; ComponentLink1Description: Datasheet; ComponentLink1URL: http://ww1.microchip.com/downloads/en/DeviceDoc/41576B.pdf; ComponentLink2Description: Package Specification; ComponentLink2URL: http://www.microchip.com/stellent/groups/techpub_sg/documents/packagingspec/en012702.pdf; ComponentLink3Description: URL Link1; ComponentLink3URL: Product URL:http://www.microchip.com/datasheet/PIC12F752
footprint MCHP-PDIP-P8 (PDIP, 8-Leads, Body 9.5x6.604mm, Pitch 2.54mm)
pins: 1 VDD (power) "Positive supply.", 2 RA5 (io), 3 RA4 (io), 4 RA3/~{MCLR}/VPP (in), 5 RA2 (io), 6 RA1/ICSPCLK (io), 7 RA0/ICSPDAT (io), 8 VSS (power) "Ground reference."

## PIC12F752-I/SN
designator U?
Flash-Based 8-Bit CMOS Microcontroller, 20 MHz, 5 I/O, -40 to 85 degC, 8-pin SOIC (SN8), Tube; Manufacturer: Microchip; PartNumber: PIC12F752-I/SN; # of A/D Channels: 4; I/O Pins: 5; Internal Oscillator: 8 MHz, 31 kHz; Max. CPU Speed MHz: 20; Memory Type: Flash; Operation Voltage Range: 2V - 5.5V; Program Memory KBytes: 1.75; Program Memory KWords: 1; RAM: 64; Timers: 3 - 8-bit, 1 - 16-bit; DatasheetVersion: Rev. B; PackageVersion: C04-057C, 12/2012; PackageReference: SOIC-SN8; PackageDescription: 8-Lead Plastic Small Outline, 4.9 x 3.9 mm Body, 1.27 mm Pitch; Supplier 1: Digi-Key; Supplier Part Number 1: PIC12F752-I/SN-ND; Supplier 2: Farnell; Supplier Part Number 2: 2081737; Supplier 3: Newark; Supplier Part Number 3: 30T3369; Supplier 4: Mouser; Supplier Part Number 4: 579-PIC12F752-I/SN; Packing: TUBE; RoHS: TRUE; Mounting Technology: Surface Mount; ComponentLink1Description: Datasheet; ComponentLink1URL: http://ww1.microchip.com/downloads/en/DeviceDoc/41576B.pdf; ComponentLink2Description: Package Specification; ComponentLink2URL: http://www.microchip.com/stellent/groups/techpub_sg/documents/packagingspec/en012702.pdf; ComponentLink3Description: URL Link1; ComponentLink3URL: Product URL:http://www.microchip.com/datasheet/PIC12F752
footprint MCHP-SOIC-SN8_N (SOIC, 8-Leads, Body 4.9x3.9mm, Pitch 1.27mm, IPC Medium Density)
footprint MCHP-SOIC-SN8_L (SOIC, 8-Leads, Body 4.9x3.9mm, Pitch 1.27mm, IPC High Density)
footprint MCHP-SOIC-SN8_M (SOIC, 8-Leads, Body 4.9x3.9mm, Pitch 1.27mm, IPC Low Density)
pins: 1 VDD (power) "Positive supply.", 2 RA5 (io), 3 RA4 (io), 4 RA3/~{MCLR}/VPP (in), 5 RA2 (io), 6 RA1/ICSPCLK (io), 7 RA0/ICSPDAT (io), 8 VSS (power) "Ground reference."

## PIC12F1501-E/MC
designator U?
Flash, 8-Bit Microcontroller, 20 MHz, 5 I/O, -40 to 125 degC, 8-pin DFN (MC8), Tube; Manufacturer: Microchip; PartNumber: PIC12F1501-E/MC; # of A/D Channels: 4; I/O Pins: 5; Internal Oscillator: 16 MHz, 31 kHz; Max. CPU Speed MHz: 20; Operation Voltage Range: 2.3V - 5.5V; Program Memory KBytes: 1.75; Program Memory KWords: 1; RAM: 64; Timers: 2 - 8-bit, 1 - 16-bit; DatasheetVersion: Rev. A; PackageVersion: C04-123C, 12/2012; PackageReference: DFN-MC8; PackageDescription: 8-Lead Plastic Dual Flat, 2 x 3 mm Body, 0.5 mm Pitch; Supplier 1: Digi-Key; Supplier Part Number 1: PIC12F1501-E/MC-ND; Supplier 2: Farnell; Supplier Part Number 2: 2084975; Supplier 3: Newark; Supplier Part Number 3: 73T1181; Supplier 4: Mouser; Supplier Part Number 4: 579-PC12F1501EMC; Memory Type: Flash; Packing: TUBE; RoHS: TRUE; Mounting Technology: Surface Mount; ComponentLink1Description: Datasheet; ComponentLink1URL: http://ww1.microchip.com/downloads/en/DeviceDoc/41615A.pdf; ComponentLink2Description: Package Specification; ComponentLink2URL: http://www.microchip.com/stellent/groups/techpub_sg/documents/packagingspec/en012702.pdf; ComponentLink3Description: URL Link1; ComponentLink3URL: Product URL:http://www.microchip.com/datasheet/PIC12F1501
footprint MCHP-DFN-MC8_V (SON, 8-Leads, Body 3x2mm, Pitch 0.5mm, Thermal Pad 1.45x1.75mm)
pins: 1 VDD (power) "Positive supply.", 2 RA5 (io), 3 RA4 (io), 4 RA3/~{MCLR}/VPP (in), 5 RA2 (io), 6 RA1/ICSPCLK (io), 7 RA0/ICSPDAT (io), 8 VSS (power) "Ground reference.", 9 EP

## PIC12F1501-E/MF
designator U?
Flash, 8-Bit Microcontroller, 20 MHz, 5 I/O, -40 to 125 degC, 8-pin DFN (MF8), Tube; Manufacturer: Microchip; PartNumber: PIC12F1501-E/MF; # of A/D Channels: 4; I/O Pins: 5; Internal Oscillator: 16 MHz, 31 kHz; Max. CPU Speed MHz: 20; Operation Voltage Range: 2.3V - 5.5V; Program Memory KBytes: 1.75; Program Memory KWords: 1; RAM: 64; Timers: 2 - 8-bit, 1 - 16-bit; DatasheetVersion: Rev. A; PackageVersion: C04-062C, 12/2012; PackageReference: DFN-MF8; PackageDescription: 8-Lead Plastic Dual Flat, No Lead Package, 3 x 3 mm Body, 0.65 mm Pitch; Supplier 1: Digi-Key; Supplier Part Number 1: PIC12F1501-E/MF-ND; Supplier 2: Newark; Supplier Part Number 2: 76T2311; Supplier 3: Mouser; Supplier Part Number 3: 579-PIC12F1501-E/MF; Memory Type: Flash; Packing: TUBE; RoHS: TRUE; Mounting Technology: Surface Mount; ComponentLink1Description: Datasheet; ComponentLink1URL: http://ww1.microchip.com/downloads/en/DeviceDoc/41615A.pdf; ComponentLink2Description: Package Specification; ComponentLink2URL: http://www.microchip.com/stellent/groups/techpub_sg/documents/packagingspec/en012702.pdf; ComponentLink3Description: URL Link1; ComponentLink3URL: Product URL:http://www.microchip.com/datasheet/PIC12F1501
footprint MCHP-DFN-MF8_V (SON, 8-Leads, Body 3x3mm, Pitch 0.65mm, Thermal Pad 2.4x1.55mm)
pins: 1 VDD (power) "Positive supply.", 2 RA5 (io), 3 RA4 (io), 4 RA3/~{MCLR}/VPP (in), 5 RA2 (io), 6 RA1/ICSPCLK (io), 7 RA0/ICSPDAT (io), 8 VSS (power) "Ground reference.", 9 EP

## PIC12F1501-E/MS
designator U?
Flash, 8-Bit Microcontroller, 20 MHz, 5 I/O, -40 to 125 degC, 8-pin MSOP (MS8), Tube; Manufacturer: Microchip; PartNumber: PIC12F1501-E/MS; # of A/D Channels: 4; I/O Pins: 5; Internal Oscillator: 16 MHz, 31 kHz; Max. CPU Speed MHz: 20; Operation Voltage Range: 2.3V - 5.5V; Program Memory KBytes: 1.75; Program Memory KWords: 1; RAM: 64; Timers: 2 - 8-bit, 1 - 16-bit; DatasheetVersion: Rev. A; PackageVersion: C04-111C, 12/2012; PackageReference: MSOP-MS8; PackageDescription: 8-Lead Plastic Micro Small Outline Package, 3 x 3 mm Body, 0.65 mm Pitch; Supplier 1: Digi-Key; Supplier Part Number 1: PIC12F1501-E/MS-ND; Supplier 2: Farnell; Supplier Part Number 2: 2084976; Supplier 3: Newark; Supplier Part Number 3: 66T9108; Supplier 4: Mouser; Supplier Part Number 4: 579-PIC12F1501-E/MS; Memory Type: Flash; Packing: TUBE; RoHS: TRUE; Mounting Technology: Surface Mount; ComponentLink1Description: Datasheet; ComponentLink1URL: http://ww1.microchip.com/downloads/en/DeviceDoc/41615A.pdf; ComponentLink2Description: Package Specification; ComponentLink2URL: http://www.microchip.com/stellent/groups/techpub_sg/documents/packagingspec/en012702.pdf; ComponentLink3Description: URL Link1; ComponentLink3URL: Product URL:http://www.microchip.com/datasheet/PIC12F1501
footprint MCHP-MSOP-MS8_N (SOP, 8-Leads, Body 3x3mm, Pitch 0.65mm, IPC Medium Density)
footprint MCHP-MSOP-MS8_L (SOP, 8-Leads, Body 3x3mm, Pitch 0.65mm, IPC High Density)
footprint MCHP-MSOP-MS8_M (SOP, 8-Leads, Body 3x3mm, Pitch 0.65mm, IPC Low Density)
pins: 1 VDD (power) "Positive supply.", 2 RA5 (io), 3 RA4 (io), 4 RA3/~{MCLR}/VPP (in), 5 RA2 (io), 6 RA1/ICSPCLK (io), 7 RA0/ICSPDAT (io), 8 VSS (power) "Ground reference."

## PIC12F1501-E/P
designator U?
Flash, 8-Bit Microcontroller, 20 MHz, 5 I/O, -40 to 125 degC, 8-pin PDIP (P8), Tube; Manufacturer: Microchip; PartNumber: PIC12F1501-E/P; # of A/D Channels: 4; I/O Pins: 5; Internal Oscillator: 16 MHz, 31 kHz; Max. CPU Speed MHz: 20; Operation Voltage Range: 2.3V - 5.5V; Program Memory KBytes: 1.75; Program Memory KWords: 1; RAM: 64; Timers: 2 - 8-bit, 1 - 16-bit; DatasheetVersion: Rev. A; PackageVersion: C04-018B, 12/2012; PackageReference: PDIP-P8; PackageDescription: 8-Lead Plastic Dual In-Line, Row Spacing 7.62 mm, 9.5 x 6.6 mm Body, 2.54 mm Pitch; Supplier 1: Digi-Key; Supplier Part Number 1: PIC12F1501-E/P-ND; Supplier 2: Farnell; Supplier Part Number 2: 2084977; Supplier 3: Newark; Supplier Part Number 3: 66T9109; Supplier 4: Mouser; Supplier Part Number 4: 579-PIC12F1501-E/P; Memory Type: Flash; Packing: TUBE; RoHS: TRUE; Mounting Technology: Through Hole; ComponentLink1Description: Datasheet; ComponentLink1URL: http://ww1.microchip.com/downloads/en/DeviceDoc/41615A.pdf; ComponentLink2Description: Package Specification; ComponentLink2URL: http://www.microchip.com/stellent/groups/techpub_sg/documents/packagingspec/en012702.pdf; ComponentLink3Description: URL Link1; ComponentLink3URL: Product URL:http://www.microchip.com/datasheet/PIC12F1501
footprint MCHP-PDIP-P8 (PDIP, 8-Leads, Body 9.5x6.604mm, Pitch 2.54mm)
pins: 1 VDD (power) "Positive supply.", 2 RA5 (io), 3 RA4 (io), 4 RA3/~{MCLR}/VPP (in), 5 RA2 (io), 6 RA1/ICSPCLK (io), 7 RA0/ICSPDAT (io), 8 VSS (power) "Ground reference."

## PIC12F1501-E/SN
designator U?
Flash, 8-Bit Microcontroller, 20 MHz, 5 I/O, -40 to 125 degC, 8-pin SOIC (SN8), Tube; Manufacturer: Microchip; PartNumber: PIC12F1501-E/SN; # of A/D Channels: 4; I/O Pins: 5; Internal Oscillator: 16 MHz, 31 kHz; Max. CPU Speed MHz: 20; Operation Voltage Range: 2.3V - 5.5V; Program Memory KBytes: 1.75; Program Memory KWords: 1; RAM: 64; Timers: 2 - 8-bit, 1 - 16-bit; DatasheetVersion: Rev. A; PackageVersion: C04-057C, 12/2012; PackageReference: SOIC-SN8; PackageDescription: 8-Lead Plastic Small Outline, 4.9 x 3.9 mm Body, 1.27 mm Pitch; Supplier 1: Digi-Key; Supplier Part Number 1: PIC12F1501-E/SN-ND; Supplier 2: Farnell; Supplier Part Number 2: 2084978; Supplier 3: Newark; Supplier Part Number 3: 66T9110; Supplier 4: Mouser; Supplier Part Number 4: 579-PIC12F1501-E/SN; Memory Type: Flash; Packing: TUBE; RoHS: TRUE; Mounting Technology: Surface Mount; ComponentLink1Description: Datasheet; ComponentLink1URL: http://ww1.microchip.com/downloads/en/DeviceDoc/41615A.pdf; ComponentLink2Description: Package Specification; ComponentLink2URL: http://www.microchip.com/stellent/groups/techpub_sg/documents/packagingspec/en012702.pdf; ComponentLink3Description: URL Link1; ComponentLink3URL: Product URL:http://www.microchip.com/datasheet/PIC12F1501
footprint MCHP-SOIC-SN8_N (SOIC, 8-Leads, Body 4.9x3.9mm, Pitch 1.27mm, IPC Medium Density)
footprint MCHP-SOIC-SN8_L (SOIC, 8-Leads, Body 4.9x3.9mm, Pitch 1.27mm, IPC High Density)
footprint MCHP-SOIC-SN8_M (SOIC, 8-Leads, Body 4.9x3.9mm, Pitch 1.27mm, IPC Low Density)
pins: 1 VDD (power) "Positive supply.", 2 RA5 (io), 3 RA4 (io), 4 RA3/~{MCLR}/VPP (in), 5 RA2 (io), 6 RA1/ICSPCLK (io), 7 RA0/ICSPDAT (io), 8 VSS (power) "Ground reference."

## PIC12F1501-I/MC
designator U?
Flash, 8-Bit Microcontroller, 20 MHz, 5 I/O, -40 to 85 degC, 8-pin DFN (MC8), Tube; Manufacturer: Microchip; PartNumber: PIC12F1501-I/MC; # of A/D Channels: 4; I/O Pins: 5; Internal Oscillator: 16 MHz, 31 kHz; Max. CPU Speed MHz: 20; Operation Voltage Range: 2.3V - 5.5V; Program Memory KBytes: 1.75; Program Memory KWords: 1; RAM: 64; Timers: 2 - 8-bit, 1 - 16-bit; DatasheetVersion: Rev. A; PackageVersion: C04-123C, 12/2012; PackageReference: DFN-MC8; PackageDescription: 8-Lead Plastic Dual Flat, 2 x 3 mm Body, 0.5 mm Pitch; Supplier 1: Digi-Key; Supplier Part Number 1: PIC12F1501-I/MC-ND; Supplier 2: Farnell; Supplier Part Number 2: 2084979; Supplier 3: Newark; Supplier Part Number 3: 73T1182; Supplier 4: Mouser; Supplier Part Number 4: 579-PC12F1501IMC; Memory Type: Flash; Packing: TUBE; RoHS: TRUE; Mounting Technology: Surface Mount; ComponentLink1Description: Datasheet; ComponentLink1URL: http://ww1.microchip.com/downloads/en/DeviceDoc/41615A.pdf; ComponentLink2Description: Package Specification; ComponentLink2URL: http://www.microchip.com/stellent/groups/techpub_sg/documents/packagingspec/en012702.pdf; ComponentLink3Description: URL Link1; ComponentLink3URL: Product URL:http://www.microchip.com/datasheet/PIC12F1501
footprint MCHP-DFN-MC8_V (SON, 8-Leads, Body 3x2mm, Pitch 0.5mm, Thermal Pad 1.45x1.75mm)
pins: 1 VDD (power) "Positive supply.", 2 RA5 (io), 3 RA4 (io), 4 RA3/~{MCLR}/VPP (in), 5 RA2 (io), 6 RA1/ICSPCLK (io), 7 RA0/ICSPDAT (io), 8 VSS (power) "Ground reference.", 9 EP

## PIC12F1501-I/MF
designator U?
Flash, 8-Bit Microcontroller, 20 MHz, 5 I/O, -40 to 85 degC, 8-pin DFN (MF8), Tube; Manufacturer: Microchip; PartNumber: PIC12F1501-I/MF; # of A/D Channels: 4; I/O Pins: 5; Internal Oscillator: 16 MHz, 31 kHz; Max. CPU Speed MHz: 20; Operation Voltage Range: 2.3V - 5.5V; Program Memory KBytes: 1.75; Program Memory KWords: 1; RAM: 64; Timers: 2 - 8-bit, 1 - 16-bit; DatasheetVersion: Rev. A; PackageVersion: C04-062C, 12/2012; PackageReference: DFN-MF8; PackageDescription: 8-Lead Plastic Dual Flat, No Lead Package, 3 x 3 mm Body, 0.65 mm Pitch; Supplier 1: Digi-Key; Supplier Part Number 1: PIC12F1501-I/MF-ND; Supplier 2: Mouser; Supplier Part Number 2: 579-PIC12F1501-I/MF; Memory Type: Flash; Packing: TUBE; RoHS: TRUE; Mounting Technology: Surface Mount; ComponentLink1Description: Datasheet; ComponentLink1URL: http://ww1.microchip.com/downloads/en/DeviceDoc/41615A.pdf; ComponentLink2Description: Package Specification; ComponentLink2URL: http://www.microchip.com/stellent/groups/techpub_sg/documents/packagingspec/en012702.pdf; ComponentLink3Description: URL Link1; ComponentLink3URL: Product URL:http://www.microchip.com/datasheet/PIC12F1501
footprint MCHP-DFN-MF8_V (SON, 8-Leads, Body 3x3mm, Pitch 0.65mm, Thermal Pad 2.4x1.55mm)
pins: 1 VDD (power) "Positive supply.", 2 RA5 (io), 3 RA4 (io), 4 RA3/~{MCLR}/VPP (in), 5 RA2 (io), 6 RA1/ICSPCLK (io), 7 RA0/ICSPDAT (io), 8 VSS (power) "Ground reference.", 9 EP

## PIC12F1501-I/MS
designator U?
Flash, 8-Bit Microcontroller, 20 MHz, 5 I/O, -40 to 85 degC, 8-pin MSOP (MS8), Tube; Manufacturer: Microchip; PartNumber: PIC12F1501-I/MS; # of A/D Channels: 4; I/O Pins: 5; Internal Oscillator: 16 MHz, 31 kHz; Max. CPU Speed MHz: 20; Operation Voltage Range: 2.3V - 5.5V; Program Memory KBytes: 1.75; Program Memory KWords: 1; RAM: 64; Timers: 2 - 8-bit, 1 - 16-bit; DatasheetVersion: Rev. A; PackageVersion: C04-111C, 12/2012; PackageReference: MSOP-MS8; PackageDescription: 8-Lead Plastic Micro Small Outline Package, 3 x 3 mm Body, 0.65 mm Pitch; Supplier 1: Digi-Key; Supplier Part Number 1: PIC12F1501-I/MS-ND; Supplier 2: Farnell; Supplier Part Number 2: 2084980; Supplier 3: Newark; Supplier Part Number 3: 66T9111; Supplier 4: Mouser; Supplier Part Number 4: 579-PIC12F1501IMS; Memory Type: Flash; Packing: TUBE; RoHS: TRUE; Mounting Technology: Surface Mount; ComponentLink1Description: Datasheet; ComponentLink1URL: http://ww1.microchip.com/downloads/en/DeviceDoc/41615A.pdf; ComponentLink2Description: Package Specification; ComponentLink2URL: http://www.microchip.com/stellent/groups/techpub_sg/documents/packagingspec/en012702.pdf; ComponentLink3Description: URL Link1; ComponentLink3URL: Product URL:http://www.microchip.com/datasheet/PIC12F1501
footprint MCHP-MSOP-MS8_N (SOP, 8-Leads, Body 3x3mm, Pitch 0.65mm, IPC Medium Density)
footprint MCHP-MSOP-MS8_L (SOP, 8-Leads, Body 3x3mm, Pitch 0.65mm, IPC High Density)
footprint MCHP-MSOP-MS8_M (SOP, 8-Leads, Body 3x3mm, Pitch 0.65mm, IPC Low Density)
pins: 1 VDD (power) "Positive supply.", 2 RA5 (io), 3 RA4 (io), 4 RA3/~{MCLR}/VPP (in), 5 RA2 (io), 6 RA1/ICSPCLK (io), 7 RA0/ICSPDAT (io), 8 VSS (power) "Ground reference."

## PIC12F1501-I/P
designator U?
Flash, 8-Bit Microcontroller, 20 MHz, 5 I/O, -40 to 85 degC, 8-pin PDIP (P8), Tube; Manufacturer: Microchip; PartNumber: PIC12F1501-I/P; # of A/D Channels: 4; I/O Pins: 5; Internal Oscillator: 16 MHz, 31 kHz; Max. CPU Speed MHz: 20; Operation Voltage Range: 2.3V - 5.5V; Program Memory KBytes: 1.75; RAM: 64; Timers: 2 - 8-bit, 1 - 16-bit; DatasheetVersion: Rev. A; PackageVersion: C04-018B, 12/2012; PackageReference: PDIP-P8; PackageDescription: 8-Lead Plastic Dual In-Line, Row Spacing 7.62 mm, 9.5 x 6.6 mm Body, 2.54 mm Pitch; Supplier 1: Digi-Key; Supplier Part Number 1: PIC12F1501-I/P-ND; Supplier 2: Farnell; Supplier Part Number 2: 2084981; Supplier 3: Newark; Supplier Part Number 3: 66T9112; Supplier 4: Mouser; Supplier Part Number 4: 579-PIC12F1501-I/P; Memory Type: Flash; Packing: TUBE; RoHS: TRUE; Mounting Technology: Through Hole; ComponentLink1Description: Datasheet; ComponentLink1URL: http://ww1.microchip.com/downloads/en/DeviceDoc/41615A.pdf; ComponentLink2Description: Package Specification; ComponentLink2URL: http://www.microchip.com/stellent/groups/techpub_sg/documents/packagingspec/en012702.pdf; ComponentLink3Description: URL Link1; ComponentLink3URL: Product URL:http://www.microchip.com/datasheet/PIC12F1501
footprint MCHP-PDIP-P8 (PDIP, 8-Leads, Body 9.5x6.604mm, Pitch 2.54mm)
pins: 1 VDD (power) "Positive supply.", 2 RA5 (io), 3 RA4 (io), 4 RA3/~{MCLR}/VPP (in), 5 RA2 (io), 6 RA1/ICSPCLK (io), 7 RA0/ICSPDAT (io), 8 VSS (power) "Ground reference."

## PIC12F1501-I/SN
designator U?
Flash, 8-Bit Microcontroller, 20 MHz, 5 I/O, -40 to 85 degC, 8-pin SOIC (SN8), Tube; Manufacturer: Microchip; PartNumber: PIC12F1501-I/SN; # of A/D Channels: 4; I/O Pins: 5; Internal Oscillator: 16 MHz, 31 kHz; Max. CPU Speed MHz: 20; Operation Voltage Range: 2.3V - 5.5V; Program Memory KBytes: 1.75; Program Memory KWords: 1; RAM: 64; Timers: 2 - 8-bit, 1 - 16-bit; DatasheetVersion: Rev. A; PackageVersion: C04-057C, 12/2012; PackageReference: SOIC-SN8; PackageDescription: 8-Lead Plastic Small Outline, 4.9 x 3.9 mm Body, 1.27 mm Pitch; Supplier 1: Digi-Key; Supplier Part Number 1: PIC12F1501-I/SN-ND; Supplier 2: Farnell; Supplier Part Number 2: 2084982; Supplier 3: Newark; Supplier Part Number 3: 66T9113; Supplier 4: Mouser; Supplier Part Number 4: 579-PIC12F1501-I/SN; Memory Type: Flash; Packing: TUBE; RoHS: TRUE; Mounting Technology: Surface Mount; ComponentLink1Description: Datasheet; ComponentLink1URL: http://ww1.microchip.com/downloads/en/DeviceDoc/41615A.pdf; ComponentLink2Description: Package Specification; ComponentLink2URL: http://www.microchip.com/stellent/groups/techpub_sg/documents/packagingspec/en012702.pdf; ComponentLink3Description: URL Link1; ComponentLink3URL: Product URL:http://www.microchip.com/datasheet/PIC12F1501
footprint MCHP-SOIC-SN8_N (SOIC, 8-Leads, Body 4.9x3.9mm, Pitch 1.27mm, IPC Medium Density)
footprint MCHP-SOIC-SN8_L (SOIC, 8-Leads, Body 4.9x3.9mm, Pitch 1.27mm, IPC High Density)
footprint MCHP-SOIC-SN8_M (SOIC, 8-Leads, Body 4.9x3.9mm, Pitch 1.27mm, IPC Low Density)
pins: 1 VDD (power) "Positive supply.", 2 RA5 (io), 3 RA4 (io), 4 RA3/~{MCLR}/VPP (in), 5 RA2 (io), 6 RA1/ICSPCLK (io), 7 RA0/ICSPDAT (io), 8 VSS (power) "Ground reference."

## PIC12F1501T-E/SN
designator U?
Flash, 8-Bit Microcontroller, 20 MHz, 5 I/O, -40 to 125 degC, 8-pin SOIC (SN8), Tape and Reel; Manufacturer: Microchip; PartNumber: PIC12F1501T-E/SN; # of A/D Channels: 4; I/O Pins: 5; Internal Oscillator: 16 MHz, 31 kHz; Max. CPU Speed MHz: 20; Operation Voltage Range: 2.3V - 5.5V; Packing: T/R; Program Memory KBytes: 1.75; Program Memory KWords: 1; RAM: 64; Timers: 2 - 8-bit, 1 - 16-bit; DatasheetVersion: Rev. A; PackageVersion: C04-057C, 12/2012; PackageReference: SOIC-SN8; PackageDescription: 8-Lead Plastic Small Outline, 4.9 x 3.9 mm Body, 1.27 mm Pitch; Memory Type: Flash; RoHS: TRUE; Mounting Technology: Surface Mount; ComponentLink1Description: Datasheet; ComponentLink1URL: http://ww1.microchip.com/downloads/en/DeviceDoc/41615A.pdf; ComponentLink2Description: Package Specification; ComponentLink2URL: http://www.microchip.com/stellent/groups/techpub_sg/documents/packagingspec/en012702.pdf; ComponentLink3Description: URL Link1; ComponentLink3URL: Product URL:http://www.microchip.com/datasheet/PIC12F1501
footprint MCHP-SOIC-SN8_N (SOIC, 8-Leads, Body 4.9x3.9mm, Pitch 1.27mm, IPC Medium Density)
footprint MCHP-SOIC-SN8_L (SOIC, 8-Leads, Body 4.9x3.9mm, Pitch 1.27mm, IPC High Density)
footprint MCHP-SOIC-SN8_M (SOIC, 8-Leads, Body 4.9x3.9mm, Pitch 1.27mm, IPC Low Density)
pins: 1 VDD (power) "Positive supply.", 2 RA5 (io), 3 RA4 (io), 4 RA3/~{MCLR}/VPP (in), 5 RA2 (io), 6 RA1/ICSPCLK (io), 7 RA0/ICSPDAT (io), 8 VSS (power) "Ground reference."

## PIC12F1501T-I/MC
designator U?
Flash, 8-Bit Microcontroller, 20 MHz, 5 I/O, -40 to 85 degC, 8-pin DFN (MC8), Tape and Reel; Manufacturer: Microchip; PartNumber: PIC12F1501T-I/MC; # of A/D Channels: 4; I/O Pins: 5; Internal Oscillator: 16 MHz, 31 kHz; Max. CPU Speed MHz: 20; Operation Voltage Range: 2.3V - 5.5V; Packing: T/R; Program Memory KBytes: 1.75; Program Memory KWords: 1; RAM: 64; Timers: 2 - 8-bit, 1 - 16-bit; DatasheetVersion: Rev. A; PackageVersion: C04-123C, 12/2012; PackageReference: DFN-MC8; PackageDescription: 8-Lead Plastic Dual Flat, 2 x 3 mm Body, 0.5 mm Pitch; Supplier 1: Digi-Key; Supplier Part Number 1: PIC12F1501T-I/MC-ND; Supplier 2: Mouser; Supplier Part Number 2: 579-PC12F1501TIMC; Memory Type: Flash; RoHS: TRUE; Mounting Technology: Surface Mount; ComponentLink1Description: Datasheet; ComponentLink1URL: http://ww1.microchip.com/downloads/en/DeviceDoc/41615A.pdf; ComponentLink2Description: Package Specification; ComponentLink2URL: http://www.microchip.com/stellent/groups/techpub_sg/documents/packagingspec/en012702.pdf; ComponentLink3Description: URL Link1; ComponentLink3URL: Product URL:http://www.microchip.com/datasheet/PIC12F1501
footprint MCHP-DFN-MC8_V (SON, 8-Leads, Body 3x2mm, Pitch 0.5mm, Thermal Pad 1.45x1.75mm)
pins: 1 VDD (power) "Positive supply.", 2 RA5 (io), 3 RA4 (io), 4 RA3/~{MCLR}/VPP (in), 5 RA2 (io), 6 RA1/ICSPCLK (io), 7 RA0/ICSPDAT (io), 8 VSS (power) "Ground reference.", 9 EP

## PIC12F1501T-I/SN
designator U?
Flash, 8-Bit Microcontroller, 20 MHz, 5 I/O, -40 to 85 degC, 8-pin SOIC (SN8), Tape and Reel; Manufacturer: Microchip; PartNumber: PIC12F1501T-I/SN; # of A/D Channels: 4; I/O Pins: 5; Internal Oscillator: 16 MHz, 31 kHz; Max. CPU Speed MHz: 20; Operation Voltage Range: 2.3V - 5.5V; Packing: T/R; Program Memory KBytes: 1.75; Program Memory KWords: 1; RAM: 64; Timers: 2 - 8-bit, 1 - 16-bit; DatasheetVersion: Rev. A; PackageVersion: C04-057C, 12/2012; PackageReference: SOIC-SN8; PackageDescription: 8-Lead Plastic Small Outline, 4.9 x 3.9 mm Body, 1.27 mm Pitch; Supplier 1: Digi-Key; Supplier Part Number 1: PIC12F1501T-I/SN-ND; Supplier 2: Newark; Supplier Part Number 2: 66T9115; Supplier 3: Mouser; Supplier Part Number 3: 579-PIC12F1501TISN; Memory Type: Flash; RoHS: TRUE; Mounting Technology: Surface Mount; ComponentLink1Description: Datasheet; ComponentLink1URL: http://ww1.microchip.com/downloads/en/DeviceDoc/41615A.pdf; ComponentLink2Description: Package Specification; ComponentLink2URL: http://www.microchip.com/stellent/groups/techpub_sg/documents/packagingspec/en012702.pdf; ComponentLink3Description: URL Link1; ComponentLink3URL: Product URL:http://www.microchip.com/datasheet/PIC12F1501
footprint MCHP-SOIC-SN8_N (SOIC, 8-Leads, Body 4.9x3.9mm, Pitch 1.27mm, IPC Medium Density)
footprint MCHP-SOIC-SN8_L (SOIC, 8-Leads, Body 4.9x3.9mm, Pitch 1.27mm, IPC High Density)
footprint MCHP-SOIC-SN8_M (SOIC, 8-Leads, Body 4.9x3.9mm, Pitch 1.27mm, IPC Low Density)
pins: 1 VDD (power) "Positive supply.", 2 RA5 (io), 3 RA4 (io), 4 RA3/~{MCLR}/VPP (in), 5 RA2 (io), 6 RA1/ICSPCLK (io), 7 RA0/ICSPDAT (io), 8 VSS (power) "Ground reference."

## PIC12F1571-E/MF
designator U?
Microcontroller with High Precision 16-Bit PWMs, 1K (x14-Bit words) Program Memory, 128 Bytes SRAM, 6 I/O, Extended Temperature, 8-Pin DFN (MF8), Tube; Manufacturer: Microchip; PartNumber: PIC12F1571-E/MF; VCC Range: 2.3 to 5.5 V; DatasheetVersion: Rev. A; PackageVersion: C04-062C, 12/2012; PackageReference: DFN-MF8; PackageDescription: 8-Lead Plastic Dual Flat, No Lead Package, 3 x 3 mm Body, 0.65 mm Pitch; Supplier 1: Digi-Key; Supplier Part Number 1: PIC12F1571-E/MF-ND; Supplier 2: Newark; Supplier Part Number 2: 17X9195; Supplier 3: Mouser; Supplier Part Number 3: 579-PIC12F1571-E/MF; Packing: Tube; Mounting Technology: Surface Mount; ComponentLink1Description: Manufacturer URL; ComponentLink1URL: http://www.microchip.com/; ComponentLink2Description: Datasheet; ComponentLink2URL: http://ww1.microchip.com/downloads/en/DeviceDoc/40001723A.pdf; ComponentLink3Description: Package Specification; ComponentLink3URL: http://www.microchip.com/stellent/groups/techpub_sg/documents/packagingspec/en012702.pdf
footprint MCHP-DFN-MF8_V (SON, 8-Leads, Body 3x3mm, Pitch 0.65mm, Thermal Pad 2.4x1.55mm)
pins: 1 VDD (power) "Positive supply.", 2 RA5 (io), 3 RA4 (io), 4 RA3/~{MCLR}/VPP (in), 5 RA2 (io), 6 RA1/ICSPCLK (io), 7 RA0/ICSPDAT (io), 8 VSS (power) "Ground reference.", 9 EP

## PIC12F1571-E/MS
designator U?
Microcontroller with High Precision 16-Bit PWMs, 1K (x14-Bit words) Program Memory, 128 Bytes SRAM, 6 I/O, Extended Temperature, 8-Pin MSOP (MS8), Tube; Manufacturer: Microchip; PartNumber: PIC12F1571-E/MS; VCC Range: 2.3 to 5.5 V; DatasheetVersion: Rev. A; PackageVersion: C04-111C, 12/2012; PackageReference: MSOP-MS8; PackageDescription: 8-Lead Plastic Micro Small Outline Package, 3 x 3 mm Body, 0.65 mm Pitch; Supplier 1: Digi-Key; Supplier Part Number 1: PIC12F1571-E/MS-ND; Supplier 2: Newark; Supplier Part Number 2: 17X9196; Supplier 3: Mouser; Supplier Part Number 3: 579-PIC12F1571-E/MS; Packing: Tube; Mounting Technology: Surface Mount; ComponentLink1Description: Manufacturer URL; ComponentLink1URL: http://www.microchip.com/; ComponentLink2Description: Datasheet; ComponentLink2URL: http://ww1.microchip.com/downloads/en/DeviceDoc/40001723A.pdf; ComponentLink3Description: Package Specification; ComponentLink3URL: http://www.microchip.com/stellent/groups/techpub_sg/documents/packagingspec/en012702.pdf
footprint MCHP-MSOP-MS8_N (SOP, 8-Leads, Body 3x3mm, Pitch 0.65mm, IPC Medium Density)
footprint MCHP-MSOP-MS8_L (SOP, 8-Leads, Body 3x3mm, Pitch 0.65mm, IPC High Density)
footprint MCHP-MSOP-MS8_M (SOP, 8-Leads, Body 3x3mm, Pitch 0.65mm, IPC Low Density)
pins: 1 VDD (power) "Positive supply.", 2 RA5 (io), 3 RA4 (io), 4 RA3/~{MCLR}/VPP (in), 5 RA2 (io), 6 RA1/ICSPCLK (io), 7 RA0/ICSPDAT (io), 8 VSS (power) "Ground reference."